# Altium schematic symbol library CC11xx.SchLib: 1 symbol
Pins are listed as number, name and electrical type; pins without a type are passive.

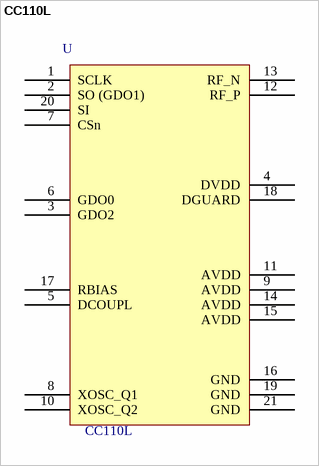
[diagram p0: symbol CC110L]

## CC110L
designator U  value CC110L  (hidden comment: *)
Manufacturer Code: CC110LRGPT; Manufacturer: Texas Instruments; Output Power: 12dBm; Farnell Code: 2422926; Unit Price: 3,32 €
footprint QFN-20
pins: 1 SCLK, 2 SO (GDO1), 3 GDO2, 4 DVDD, 5 DCOUPL, 6 GDO0, 7 CSn, 8 XOSC_Q1, 9 AVDD, 10 XOSC_Q2, 11 AVDD, 12 RF_P, 13 RF_N, 14 AVDD, 15 AVDD, 16 GND, 17 RBIAS, 18 DGUARD, 19 GND, 20 SI, 21 GND